# EAGLE library part GENERIC-SIP-14_ (library NVSL)
Generic single row in-line pin header or receptacle, 14 pin, 2.54 mm or 2mm pin spacing etc., male and female versions, shrouded or not, verticle or right angle
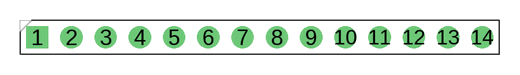
[diagram p1: symbol with the pads of HDRV14W63P254_14X1_3556X254H838; footprint HDRV14W63P254_14X1_3556X254H838]

Designator prefix -

## GENERIC-SIP-14_2.54-SPACE-VERTICAL  [HDRV14W63P254_14X1_3556X254H838]
1  1  ?
2  2  ?
3  3  ?
4  4  ?
5  5  ?
6  6  ?
7  7  ?
8  8  ?
9  9  ?
10  10  ?
11  11  ?
12  12  ?
13  13  ?
14  14  ?

## Footprint HDRV14W63P254_14X1_3556X254H838 (pad centres in mm)
drill 1.1 pad 1.65 square: 1 0,0
drill 1.1 pad 1.65: 2 2.54,0; 3 5.08,0; 4 7.62,0; 5 10.16,0; 6 12.7,0; 7 15.24,0; 8 17.78,0; 9 20.32,0; 10 22.86,0; 11 25.4,0; 12 27.94,0; 13 30.48,0; 14 33.02,0